# Altium integrated library JUST_DRAWING.IntLib: 34 symbols
Pins are listed as number, name and electrical type; pins without a type are passive.

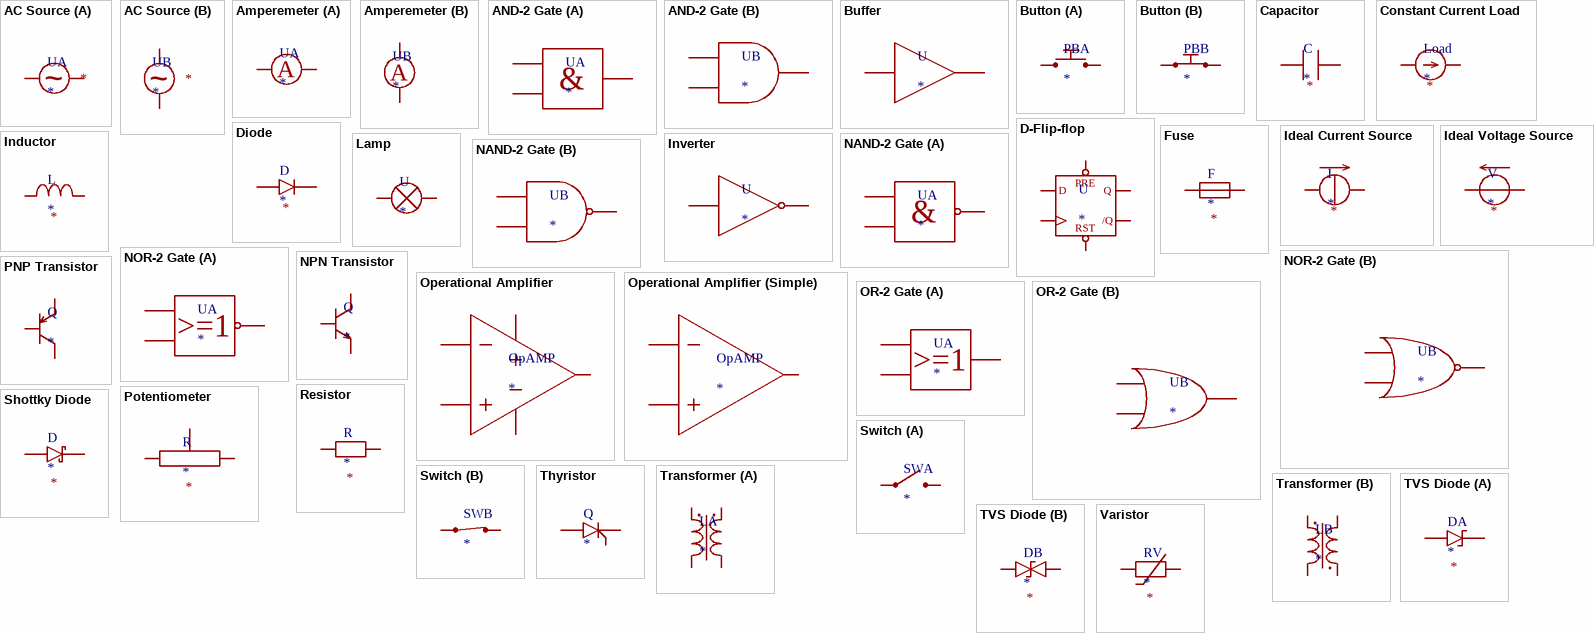
[diagram p0: symbols AC Source to Varistor]

## AC Source
designator U
Voltage: *
part A pins: 1, 2
part B pins: 3, 4
part A text: ~
part B text: ~

## Amperemeter
designator U
part A pins: 1, 2
part B pins: 3, 4
part A text: A
part B text: A

## AND-2 Gate
designator U
part A pins: 1, 2, 3
part B pins: 4, 5, 6
part A text: &

## Buffer
designator U
pins: 1, 2

## Button
designator PB
part A pins: 1, 2
part B pins: 3, 4

## Capacitor
designator C
Voltage: *; Capacity: *
pins: 1, 2

## Constant Current Load
designator Load
Current: *
pins: 1, 2

## D-Flip-flop
designator U
pins: 1, 2, 3, 4, 5, 6
text: PRE; D; Q; /Q; RST

## Diode
designator D
Reverse Voltage: *; Forward Voltage: *
pins: 1, 2

## Fuse
designator F
Voltage: *; Current: *
pins: 1, 2

## Ideal Current Source
designator I
Current: *
pins: 1, 2

## Ideal Voltage Source
designator V
Voltage: *
pins: 1, 2

## Inductor
designator L
Current: *; Inductance: *
pins: 1, 2

## Inverter
designator U
pins: 1, 2

## Lamp
designator U
pins: 1, 2

## NAND-2 Gate
designator U
part A pins: 1, 2, 3
part B pins: 4, 5, 6
part A text: &

## NOR-2 Gate
designator U
part A pins: 1, 2, 3
part B pins: 4, 5, 6
part A text: >=1

## NPN Transistor
designator Q
Power: *; Common-Base Current Gain: *; Base-Emitter Voltage: *; Common-Emitter Current Gain: *
pins: 1, 2, 3

## Operational Amplifier
designator OpAMP
Transitfrequency: *; Input Offset Voltage: *; Gain Bandwidth Product: *; Slew Rate: *; Amplification: *
pins: 1, 2, 3, 4, 5

## Operational Amplifier (Simple)
designator OpAMP
Transitfrequency: *; Input Offset Voltage: *; Gain Bandwidth Product: *; Slew Rate: *; Amplification: *
pins: 1, 2, 3

## OR-2 Gate
designator U
part A pins: 1, 2, 3
part B pins: 4, 5, 6
part A text: >=1

## PNP Transistor
designator Q
Power: *; Common-Base Current Gain: *; Base-Emitter Voltage: *; Common-Emitter Current Gain: *
pins: 1, 2, 3

## Potentiometer
designator R
Power: *; Base Resistance: *
pins: 1, 2, 3

## Resistor
designator R
Power: *; Resistance: *
pins: 1, 2

## Shottky Diode
designator D
Reverse Voltage: *; Forward Voltage: *
pins: 1, 2

## Switch
designator SW
part A pins: 1, 2
part B pins: 3, 4

## Thyristor
designator Q
pins: 1, 2, 3

## Transformer
designator L
Current: *; Inductance: *; P. Turns: *; S. Turns: *
part A pins: 1, 1, 2, 2
part B pins: 1, 1, 2, 2

## TVS Diode
designator D
Forward Voltage: *; Breakdown Voltage: *
part A pins: 1, 2
part B pins: 1, 2

## Varistor
designator RV
Power: *; Resistance: *
pins: 1, 2

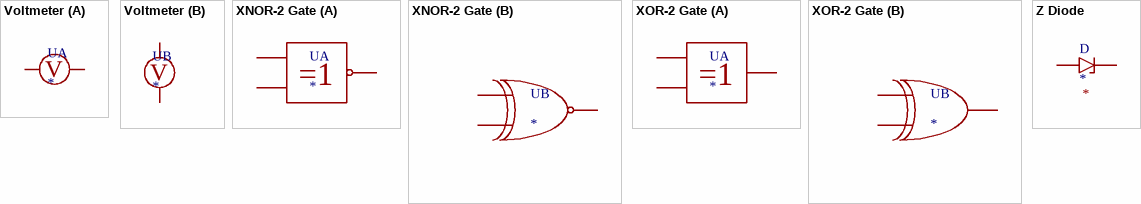
[diagram p1: symbols Voltmeter to Z Diode]

## Voltmeter
designator U
part A pins: 1, 2
part B pins: 3, 4
part A text: V
part B text: V

## XNOR-2 Gate
designator U
part A pins: 1, 2, 3
part B pins: 4, 5, 6

## XOR-2 Gate
designator U
part A pins: 1, 2, 3
part B pins: 4, 5, 6

## Z Diode
designator D
Forward Voltage: *; Reverse Voltage: *
pins: 1, 2